# Altium footprint library lmz12001.PcbLib: 1 footprints
Each footprint in its own frame and in the unit in brackets; x right, y up, seen from the top. Pads: shape width x height; smd on the part's side, far side on the other; paste and mask are expansions set on the pad; w line width, h text height; cw(c..) or ccw(c..) is an arc to the next point about the centre after c.
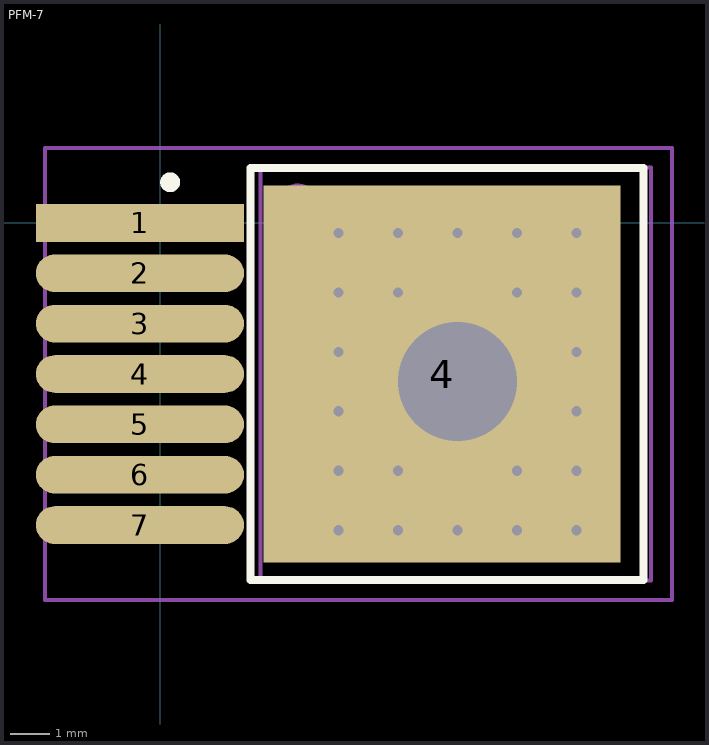
[diagram p0: the footprint, top view; thin cyan lines are the x and y axes]

## PFM-7 [mm] "SOP, 14-Leads, Body 10.4x9.9mm (max), Pitch 1.27mm, IPC Low Density"
height 4.57
pads (8):
  rect 5.25x0.95 smd: 1(-0.508,0)
  oval 5.25x0.95 smd: 2(-0.508,-1.27) 3(-0.508,-2.54) 4(-0.508,-3.81) 5(-0.508,-5.08) 6(-0.508,-6.35) 7(-0.508,-7.62)
  rect 9x9.5 smd: 4(7.112,-3.81)
via 4.5,-7.75 diameter 0.508 hole 0.254
via 6,-7.75 diameter 0.508 hole 0.254
via 7.5,-7.75 diameter 0.508 hole 0.254
via 9,-7.75 diameter 0.508 hole 0.254
via 10.5,-7.75 diameter 0.508 hole 0.254
via 9,-6.25 diameter 0.508 hole 0.254
via 6,-6.25 diameter 0.508 hole 0.254
via 4.5,-6.25 diameter 0.508 hole 0.254
via 4.5,-4.75 diameter 0.508 hole 0.254
via 4.5,-3.25 diameter 0.508 hole 0.254
via 4.5,-1.75 diameter 0.508 hole 0.254
via 6,-1.75 diameter 0.508 hole 0.254
via 9,-1.75 diameter 0.508 hole 0.254
via 10.5,-6.25 diameter 0.508 hole 0.254
via 10.5,-4.75 diameter 0.508 hole 0.254
via 10.5,-3.25 diameter 0.508 hole 0.254
via 10.5,-1.75 diameter 0.508 hole 0.254
via 9,-0.25 diameter 0.508 hole 0.254
via 7.5,-0.25 diameter 0.508 hole 0.254
via 6,-0.25 diameter 0.508 hole 0.254
via 4.5,-0.25 diameter 0.508 hole 0.254
via 10.5,-0.25 diameter 0.508 hole 0.254
via 7.5,-4 diameter 3.75 hole 3
Top Overlay:
  circle w0.25: c0.254,1.025 r0.125
  lines w0.2: 2.286,-9.01 12.192,-9.01 12.192,1.39 2.286,1.39 2.286,-9.01
Mechanical 13:
  circle w0.1: c3.479,0.445 r0.5
  lines w0.1: 2.529,-9.015 12.379,-9.015 12.379,1.395 2.529,1.395 2.529,-9.015
Mechanical 15:
  lines w0.1: 6.954,-3.81 7.954,-3.81 ; 7.454,-4.31 7.454,-3.31 ; -2.896,-9.51 12.915,-9.51 12.915,1.89 -2.896,1.89 -2.896,-9.51
3D body: height 4.57, standoff 0.7, extent 2.529,-9.015 12.379,1.395